# EAGLE library part ADL5902 (library ADL5902)
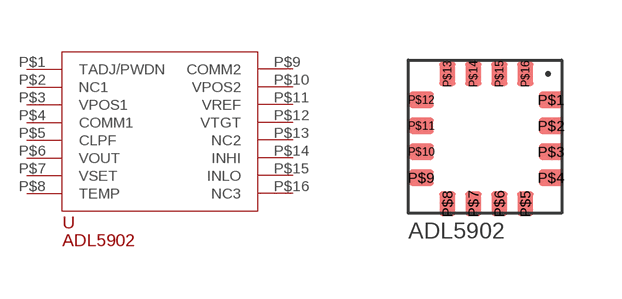
[diagram p0: symbol with the pads of ADL5902; footprint ADL5902]

Designator prefix -

## ADL5902  [ADL5902]
P$1  TADJ/PWDN
P$2  NC1
P$3  VPOS1
P$4  COMM1
P$5  CLPF
P$6  VOUT
P$7  VSET
P$8  TEMP
P$9  COMM2
P$10  VPOS2
P$11  VREF
P$12  VTGT
P$13  NC2
P$14  INHI
P$15  INLO
P$16  NC3

## Footprint ADL5902 (pad centres in mm)
smd 0.6 x 0.4: P$1 3.9,-1.95; P$2 3.9,-2.6; P$3 3.9,-3.25; P$4 3.9,-3.9; P$9 0.65,-3.9; P$10 0.65,-3.25; P$11 0.65,-2.6; P$12 0.65,-1.95
smd 0.4 x 0.6: P$5 3.25,-4.55; P$6 2.6,-4.55; P$7 1.95,-4.55; P$8 1.3,-4.55; P$13 1.3,-1.3; P$14 1.95,-1.3; P$15 2.6,-1.3; P$16 3.25,-1.3